# EAGLE library part Z80CTC (library zilog)
Z80 FAMILY DEVICE
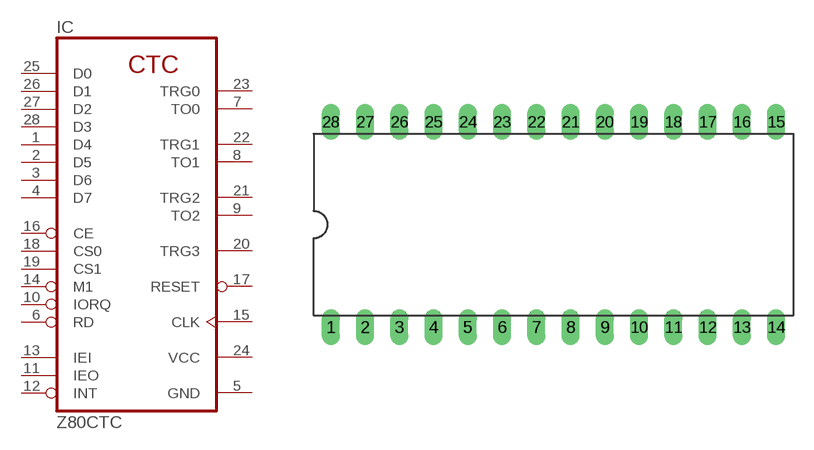
[diagram p5: symbol with the pads of DIL28; footprint DIL28]

Designator prefix IC

## Z80CTC  [DIL28]
1  D4
2  D5
3  D6
4  D7
5  GND  pwr
6  RD  in
7  TO0  out
8  TO1  out
9  TO2  out
10  IORQ  in
11  IEO  out
12  INT  out
13  IEI  in
14  M1  in
15  CLK  in
16  CE  in
17  RESET  in
18  CS0  in
19  CS1  in
20  TRG3  in
21  TRG2  in
22  TRG1  in
23  TRG0  in
24  VCC  pwr
25  D0
26  D1
27  D2
28  D3

## Footprint DIL28 (pad centres in mm)
Dual In Line Package
drill 0.813 long: 1 -16.51,-7.62; 2 -13.97,-7.62; 3 -11.43,-7.62; 4 -8.89,-7.62; 5 -6.35,-7.62; 6 -3.81,-7.62; 7 -1.27,-7.62; 8 1.27,-7.62; 9 3.81,-7.62; 10 6.35,-7.62; 11 8.89,-7.62; 12 11.43,-7.62; 13 13.97,-7.62; 14 16.51,-7.62; 15 16.51,7.62; 16 13.97,7.62; 17 11.43,7.62; 18 8.89,7.62; 19 6.35,7.62; 20 3.81,7.62; 21 1.27,7.62; 22 -1.27,7.62; 23 -3.81,7.62; 24 -6.35,7.62; 25 -8.89,7.62; 26 -11.43,7.62; 27 -13.97,7.62; 28 -16.51,7.62